# Altium footprint library Switchcraft_114B.PcbLib: 1 footprints
Each footprint in its own frame and in the unit in brackets; x right, y up, seen from the top. Pads: shape width x height; smd on the part's side, far side on the other; paste and mask are expansions set on the pad; w line width, h text height; cw(c..) or ccw(c..) is an arc to the next point about the centre after c.
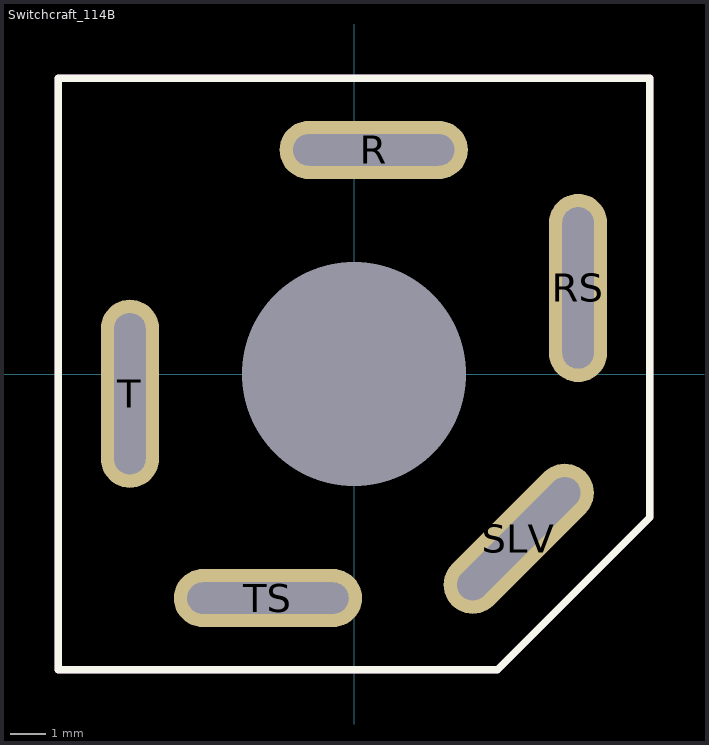
[diagram p0: the footprint, top view; thin cyan lines are the x and y axes]

## Switchcraft_114B [mil]
pads (6):
  oval 210x65 hole 35 slot 180 at 0 deg: R(22,250) TS(-96,-250)
  oval 65x210 hole 35 slot 180 at 90 deg: RS(250,96) T(-250,-22)
  oval 210x65 hole 35 slot 180 at 45 deg rot 45: SLV(183.85,-183.85)
  round 60 hole 250 unplated: ""(0,0)
Top Overlay:
  lines w7.87: -330,-330 -330,330 330,330 330,-160 160,-330 -330,-330
Mechanical 15:
  lines w7.87: -50,0 50,0 ; 0,-50 0,50 ; -330,-330 160,-330 330,-160 330,330 -330,330 -330,-330
3D body: height 1691.88, standoff -159, extent -307.49,-307.49 307.51,307.51